# Altium schematic symbol library Schlib1.SchLib: 31 symbols
Pins are listed as number, name and electrical type; pins without a type are passive.

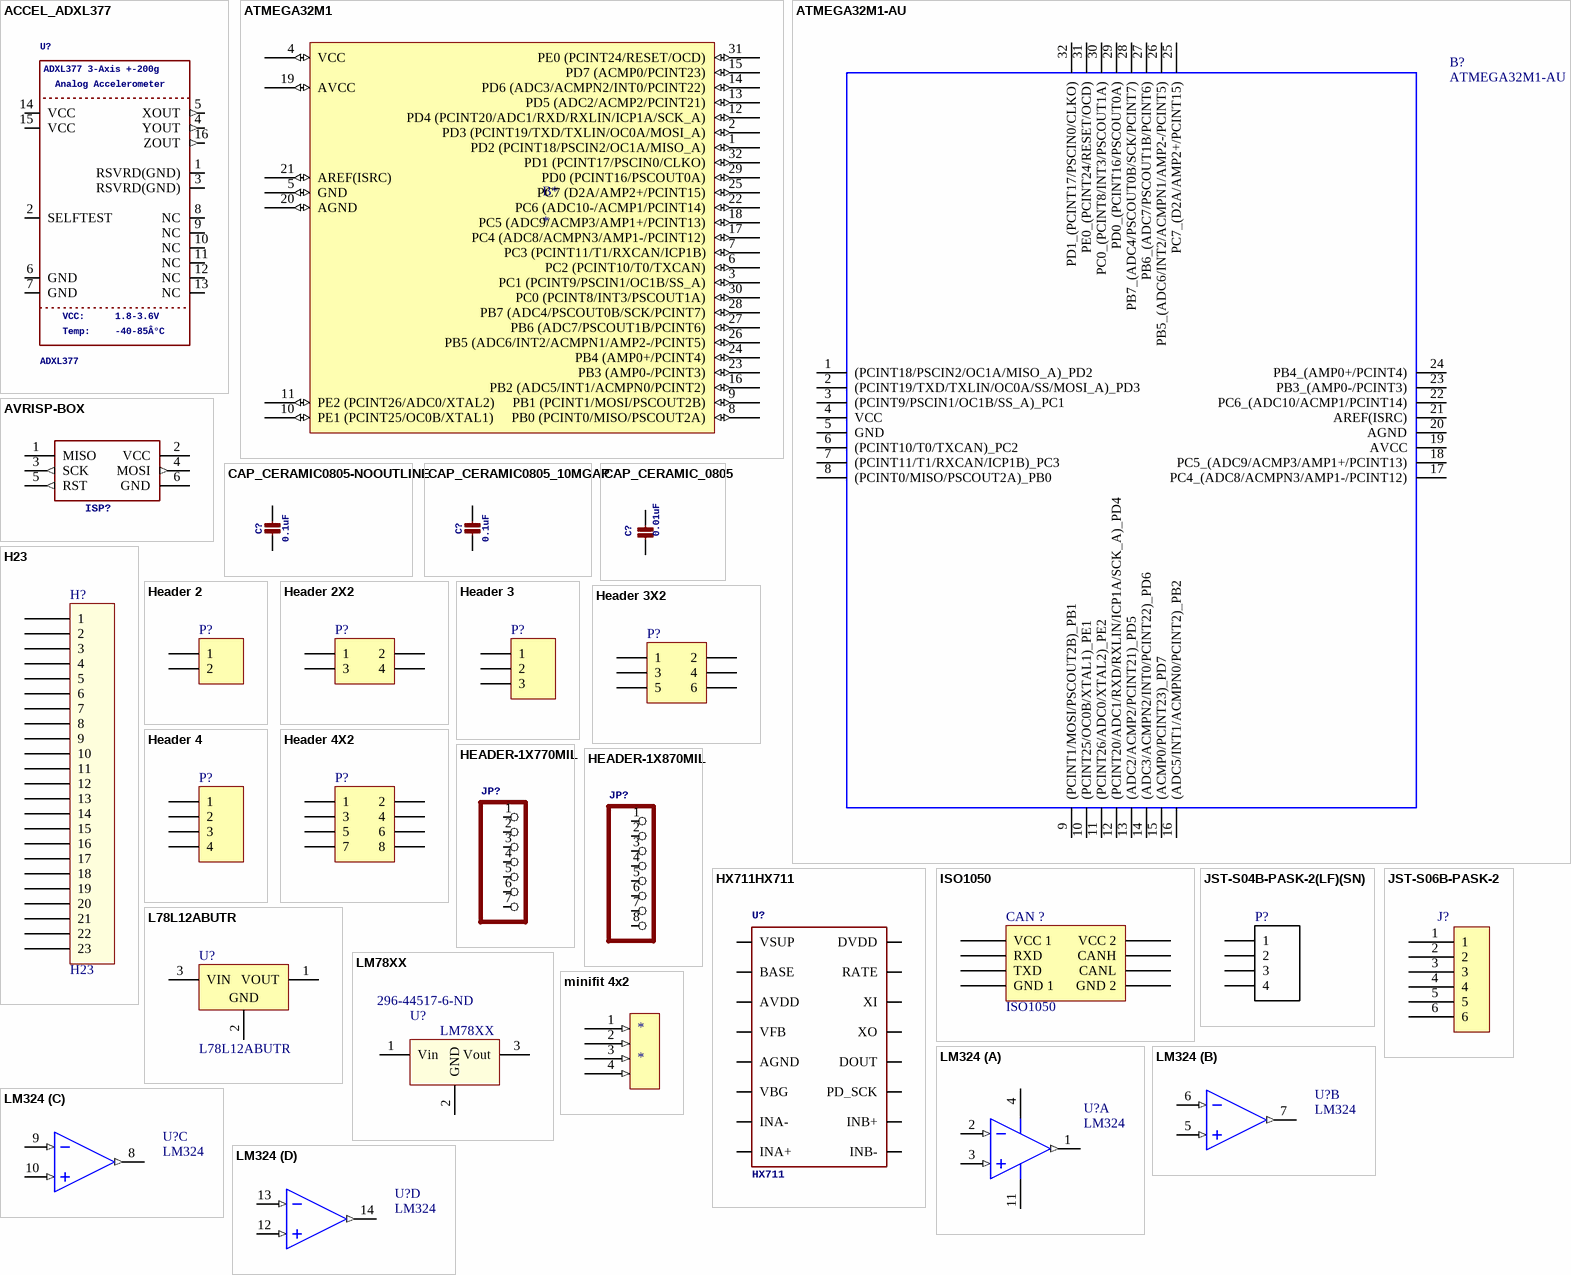
[diagram p0: symbols ACCEL_ADXL377 to minifit 4x2]

## ACCEL_ADXL377
designator U?, comment ADXL377  ADXL3773-Axis+-200g: ADXL377 3-Axis +-200g  AnalogAccelerometer: Analog Accelerometer  VCC: VCC:  Temp: Temp:
ADXL377 +/-200g 3-Axis Analog Accelerometer; GateName_1: G$1; DeviceSetName: ACCEL_ADXL377; SymbolName_1: ADXL377; LibraryName: microbuilder; 1.8-3.6V: 1.8-3.6V; -40-85Â°C: -40-85Â°C
footprint LFCSP16_LQ
pins: 1 RSVRD(GND), 2 SELFTEST, 3 RSVRD(GND), 4 YOUT (out), 5 XOUT (out), 6 GND (power), 7 GND (power), 8 NC, 9 NC, 10 NC, 11 NC, 12 NC, 13 NC, 14 VCC (power), 15 VCC (power), 16 ZOUT (out)

## ATMEGA32M1
designator B*
footprint QFP80P900X900X120-32N
pins: 1 PD2 (PCINT18/PSCIN2/OC1A/MISO_A) (io), 2 PD3 (PCINT19/TXD/TXLIN/OC0A/MOSI_A) (io), 3 PC1 (PCINT9/PSCIN1/OC1B/SS_A) (io), 4 VCC (io), 5 GND (io), 6 PC2 (PCINT10/T0/TXCAN) (io), 7 PC3 (PCINT11/T1/RXCAN/ICP1B) (io), 8 PB0 (PCINT0/MISO/PSCOUT2A) (io), 9 PB1 (PCINT1/MOSI/PSCOUT2B) (io), 10 PE1 (PCINT25/OC0B/XTAL1) (io), 11 PE2 (PCINT26/ADC0/XTAL2) (io), 12 PD4 (PCINT20/ADC1/RXD/RXLIN/ICP1A/SCK_A) (io), 13 PD5 (ADC2/ACMP2/PCINT21) (io), 14 PD6 (ADC3/ACMPN2/INT0/PCINT22) (io), 15 PD7 (ACMP0/PCINT23) (io), 16 PB2 (ADC5/INT1/ACMPN0/PCINT2) (io), 17 PC4 (ADC8/ACMPN3/AMP1-/PCINT12) (io), 18 PC5 (ADC9/ACMP3/AMP1+/PCINT13) (io), 19 AVCC (io), 20 AGND (io), 21 AREF(ISRC) (io), 22 PC6 (ADC10-/ACMP1/PCINT14) (io), 23 PB3 (AMP0-/PCINT3) (io), 24 PB4 (AMP0+/PCINT4) (io), 25 PC7 (D2A/AMP2+/PCINT15) (io), 26 PB5 (ADC6/INT2/ACMPN1/AMP2-/PCINT5) (io), 27 PB6 (ADC7/PSCOUT1B/PCINT6) (io), 28 PB7 (ADC4/PSCOUT0B/SCK/PCINT7) (io), 29 PD0 (PCINT16/PSCOUT0A) (io), 30 PC0 (PCINT8/INT3/PSCOUT1A) (io), 31 PE0 (PCINT24/RESET/OCD) (io), 32 PD1 (PCINT17/PSCIN0/CLKO) (io)

## ATMEGA32M1-AU
designator B?
MCU 8-bit ATmega AVR RISC 32KB Flash Atmel ATMEGA32M1-AU, 8bit AVR Microcontroller, 16MHz, 32 kB Flash, 32-Pin TQFP; Manufacturer_Name: Microchip; Geometry.Height: 1.2mm; Manufacturer_Part_Number: ATMEGA32M1-AU; RS Part Number: 1310286; RS Price/Stock: http://uk.rs-online.com/web/p/products/1310286; Arrow Part Number: ATMEGA32M1-AU; Arrow Price/Stock: https://www.arrow.com/en/products/atmega32m1-au/microchip-technology; Datasheet Link: http://docs-europe.electrocomponents.com/webdocs/1300/0900766b813005cb.pdf
footprint QFP80P900X900X120-32N
pins: 1 (PCINT18/PSCIN2/OC1A/MISO_A)_PD2, 2 (PCINT19/TXD/TXLIN/OC0A/SS/MOSI_A)_PD3, 3 (PCINT9/PSCIN1/OC1B/SS_A)_PC1, 4 VCC (power), 5 GND, 6 (PCINT10/T0/TXCAN)_PC2, 7 (PCINT11/T1/RXCAN/ICP1B)_PC3, 8 (PCINT0/MISO/PSCOUT2A)_PB0, 9 (PCINT1/MOSI/PSCOUT2B)_PB1, 10 (PCINT25/OC0B/XTAL1)_PE1, 11 (PCINT26/ADC0/XTAL2)_PE2, 12 (PCINT20/ADC1/RXD/RXLIN/ICP1A/SCK_A)_PD4, 13 (ADC2/ACMP2/PCINT21)_PD5, 14 (ADC3/ACMPN2/INT0/PCINT22)_PD6, 15 (ACMP0/PCINT23)_PD7, 16 (ADC5/INT1/ACMPN0/PCINT2)_PB2, 17 PC4_(ADC8/ACMPN3/AMP1-/PCINT12), 18 PC5_(ADC9/ACMP3/AMP1+/PCINT13), 19 AVCC (power), 20 AGND, 21 AREF(ISRC), 22 PC6_(ADC10/ACMP1/PCINT14), 23 PB3_(AMP0-/PCINT3), 24 PB4_(AMP0+/PCINT4), 25 PC7_(D2A/AMP2+/PCINT15), 26 PB5_(ADC6/INT2/ACMPN1/AMP2-/PCINT5), 27 PB6_(ADC7/PSCOUT1B/PCINT6), 28 PB7_(ADC4/PSCOUT0B/SCK/PCINT7), 29 PD0_(PCINT16/PSCOUT0A), 30 PC0_(PCINT8/INT3/PSCOUT1A), 31 PE0_(PCINT24/RESET/OCD), 32 PD1_(PCINT17/PSCIN0/CLKO)

## AVRISP-BOX
designator ISP?  (value not drawn)
AVR ISP HEADERStandard 6 pin header for AVR programming; GateName_1: G$1; SymbolName_1: AVRISP; DeviceName: -BOX; LibraryName: adafruit; DeviceSetName: AVRISP
footprint AVRISP-BOX
pins: 1 MISO, 2 VCC (power), 3 SCK (out), 4 MOSI (out), 5 RST (out), 6 GND (power)

## CAP_CERAMIC0805-NOOUTLINE
designator C?, comment 0.1uF
Ceramic CapacitorsFor new designs, use the packages preceded by an '_' character since they are more reliable:The following footprints should be used on most boards:For extremely tight-pitch boards where space is at a premium, the following 'micro-pitch' footprints can be used (smaller pads, no silkscreen outline, etc.):; GateName_1: G$1; DeviceName: 0805-NOOUTLINE; DeviceSetName: CAP_CERAMIC; SymbolName_1: CAPACITOR; LibraryName: microbuilder
footprint 0805-NO
pins: 1, 2

## CAP_CERAMIC0805_10MGAP
designator C?, comment 0.1uF
Ceramic CapacitorsFor new designs, use the packages preceded by an '_' character since they are more reliable:The following footprints should be used on most boards:For extremely tight-pitch boards where space is at a premium, the following 'micro-pitch' footprints can be used (smaller pads, no silkscreen outline, etc.):; GateName_1: G$1; DeviceName: 0805_10MGAP; DeviceSetName: CAP_CERAMIC; SymbolName_1: CAPACITOR; LibraryName: microbuilder
footprint 0805_10MGAP
pins: 1, 2

## CAP_CERAMIC_0805
designator C?, comment 0.01uF
Ceramic CapacitorsFor new designs, use the packages preceded by an '_' character since they are more reliable:The following footprints should be used on most boards:For extremely tight-pitch boards where space is at a premium, the following 'micro-pitch' footprints can be used (smaller pads, no silkscreen outline, etc.):Commonly Stocked Parts0402 - 0402 Surface Mount Capacitors 0603 - 0603 Surface Mount Capacitors 0603 - RF Specific 0805 - 0805 Surface Mount Capacitors 1206 - 1206 Surface Mount Capacitors; GateName_1: G$1; DeviceName: _0805; DeviceSetName: CAP_CERAMIC; SymbolName_1: CAPACITOR; LibraryName: microbuilder
footprint _0805
pins: 1 P$1, 2 P$2

## H23
designator H?
footprint Ampseal PCB 23
pins: 1, 2, 3, 4, 5, 6, 7, 8, 9, 10, 11, 12, 13, 14, 15, 16, 17, 18, 19, 20, 21, 22, 23

## Header 2
designator P?
Header, 2-Pin; LatestRevisionDate: 17-Jul-2002; LatestRevisionNote: Re-released for DXP Platform.; Publisher: Altium Limited
footprint HDR1X2 (Connector; Header; 2 Position)
signal-integrity model Connector
pins: 1, 2

## Header 2X2
designator P?
Header, 2-Pin, Dual row; LatestRevisionDate: 17-Jul-2002; LatestRevisionNote: Re-released for DXP Platform.; Publisher: Altium Limited
footprint Molex MiniFit-Jr 2x2H
pins: 1, 2, 3, 4

## Header 3
designator P?
Header, 3-Pin; LatestRevisionDate: 17-Jul-2002; LatestRevisionNote: Re-released for DXP Platform.; Publisher: Altium Limited
footprint HDR1X3 (Connector; Header; 3 Position)
pins: 1, 2, 3

## Header 3X2
designator P?
Header, 3-Pin, Dual row; LatestRevisionDate: 17-Jul-2002; LatestRevisionNote: Re-released for DXP Platform.; Publisher: Altium Limited
footprint HDR2X3 (Connector; Header; 3x2 Position)
footprint Microfit 3x2H (Molex Microfit 3mm 3x2 Horizontal PCB Mount)
pins: 1, 2, 3, 4, 5, 6

## Header 4
designator P?
Header, 4-Pin; LatestRevisionDate: 17-Jul-2002; LatestRevisionNote: Re-released for DXP Platform.; Publisher: Altium Limited
footprint Molex MiniFit-Jr 2x2H
pins: 1, 2, 3, 4

## Header 4X2
designator P?
Header, 4-Pin, Dual row; LatestRevisionDate: 17-Jul-2002; LatestRevisionNote: Re-released for DXP Platform.; Publisher: Altium Limited
footprint HDR2X4 (Connector; Header; 4x2 Position)
pins: 1, 2, 3, 4, 5, 6, 7, 8

## HEADER-1X770MIL
designator JP?  (value not drawn)
PIN HEADER; GateName_1: A; SymbolName_1: PINHD7; DeviceName: 70MIL; LibraryName: microbuilder; DeviceSetName: HEADER-1X7
footprint 1X07_ROUND_70
pins: 1, 2, 3, 4, 5, 6, 7

## HEADER-1X870MIL
designator JP?  (value not drawn)
PIN HEADER; GateName_1: A; SymbolName_1: PINHD8; DeviceName: 70MIL; LibraryName: microbuilder; DeviceSetName: HEADER-1X8
footprint 1X08_ROUND_70
pins: 1, 2, 3, 4, 5, 6, 7, 8

## HX711HX711
designator U?, comment HX711
GateName_1: U1; PROD_ID: IC-12445; SymbolName_1: HX711; DeviceName: HX711; LibraryName: Testing; DeviceSetName: HX711
footprint SO16
pins: 1 VSUP, 2 BASE, 3 AVDD, 4 VFB, 5 AGND, 6 VBG, 7 INA-, 8 INA+, 9 INB-, 10 INB+, 11 PD_SCK, 12 DOUT, 13 XO, 14 XI, 15 RATE, 16 DVDD

## ISO1050
designator CAN ?
ISO1050 Isolated Can Transceiver; Supplier 1: Farnell; Supplier Part Number 1: 1755712
footprint ISO1050 (ISO1050 Isolated Can Transceiver)
pins: 1 VCC 1, 2 RXD, 3 TXD, 4 GND 1, 5 GND 2, 6 CANL, 7 CANH, 8 VCC 2

## JST-S04B-PASK-2(LF)(SN)
designator P?, comment S04B-PASK-2(LF)(SN)  (value not drawn)
PA Series 4 Position 2.0mm Through Hole Wire to Board Single Row Shrouded Header; MP: S04B-PASK-2_LF__SN_; MF: JST; Package: None; SnapEDA_Link: https://www.snapeda.com/parts/S04B-PASK-2%2528LF%2529%2528SN%2529/JST%2520Sales%2520America%2520Inc/view-part/?ref=snap; Availability: Good; Price: 0.28 USD; Value: *
footprint JST_S04B-PASK-2(LF)(SN)
pins: 1, 2, 3, 4

## JST-S06B-PASK-2
designator J?, comment S06B-PASK-2  (value not drawn)
JST (JAPAN SOLDERLESS TERMINALS) - S06B-PASK-2 - HEADER, PA, 6WAY, SIDE, 2MM; Manufacturer_Name: JST (JAPAN SOLDERLESS TERMINALS); Manufacturer_Part_Number: S06B-PASK-2; RS Part Number: *; RS Price/Stock: *; Arrow Part Number: S06B-PASK-2; Arrow Price/Stock: *; Datasheet Link: https://www.google.at/url?sa=t&rct=j&q=&esrc=s&source=web&cd=4&cad=rja&uact=8&ved=0ahUKEwjPh4aswZ_QAhUCbRQKHeV_BDkQFggvMAM&url=http%3A%2F%2Fwww.jst-mfg.com%2Fproduct%2Fpdf%2Feng%2FePA-F.pdf&usg=AFQjCNHIjr6tw3q-UCZFm2uwsNkZVsuEmQ&sig2=Xvk6c_Ei4q2HSUHpQHCoT
footprint JST_S06B-PASK-2
pins: 1, 2, 3, 4, 5, 6

## L78L12ABUTR
designator U?
Positive Voltage Regulator, 12V, 4-Pin SOT-89, Tape and Reel; ComponentLink1Description: Manufacturer URL; ComponentLink2Description: Datasheet; DatasheetVersion: 1/02/2011; ComponentLink1URL: http://www.st.com; PackageVersion: 2011; PackageDescription: 3-Pin SOT-89 Package 1.5 mm Pitch, 4.1 mm Lead Span; ComponentLink2URL: http://www.st.com/internet/com/TECHNICAL_RESOURCES/TECHNICAL_LITERATURE/DATASHEET/CD00000446.pdf; PackageReference: SOT-89; PartNumber: L78L12ABUTR
footprint SOT-89_N
footprint SOT-89_M
footprint SOT-89_L
pins: 1 VOUT (power), 2 GND (power), 3 VIN (power)

## LM78XX
designator U?  Supplier Part Number 1: 296-44517-6-ND
LM340, LM340A and LM7805 Family Wide VIN 1.5-A Fixed Voltage Regulators / The LM340 and LM7805 Family monolithic 3-terminal / positive voltage regulators employ internal currentlimiting, / thermal shutdown and safe-area / compensation, making them essentially indestructible.; Manufacturer: Texas Instruments; Manufacturer Part Number: LM7805MPNOPB; Quiescent Current: 8mA; Dropout Voltage: 2V; Supplier: Element 14; Supplier Code: 2078564; ComponentLink1Description: datasheet; ComponentLink1URL: http://www.ti.com/lit/ds/symlink/lm340.pdf; Supplier 1: Digi-Key; Stock 1: 1295; Pricing 1: 1=1.36, 10=1.215, 100=0.9476, 500=0.7828 (USD); Min Operating Temperature: 0°C; Max Operating Temperature: 125°C; Lead Free: Contains Lead
footprint SOT-223-2 (SOT-223/SC-73; 4 Leads; Body 6.7 x 7.3 mm, inc. leads (LxW max))
pins: 1 Vin, 2 GND, 3 Vout

## LM324
designator U?
Low Power Quad Operational Amplifier
footprint SO14
part A pins: 1 1 OUT (out), 2 1 IN- (in), 3 1 IN+ (in), 4 VCC (power), 11 VEE (power)
part B pins: 5 2 IN+ (in), 6 2 IN- (in), 7 2 OUT (out)
part C pins: 8 3 OUT (out), 9 3 IN- (in), 10 3 IN+ (in)
part D pins: 12 4 IN+ (in), 13 4 IN- (in), 14 4 OUT (out)

## minifit 4x2
designator *
pins: 1 (in), 2 (in), 3 (in), 4 (in)

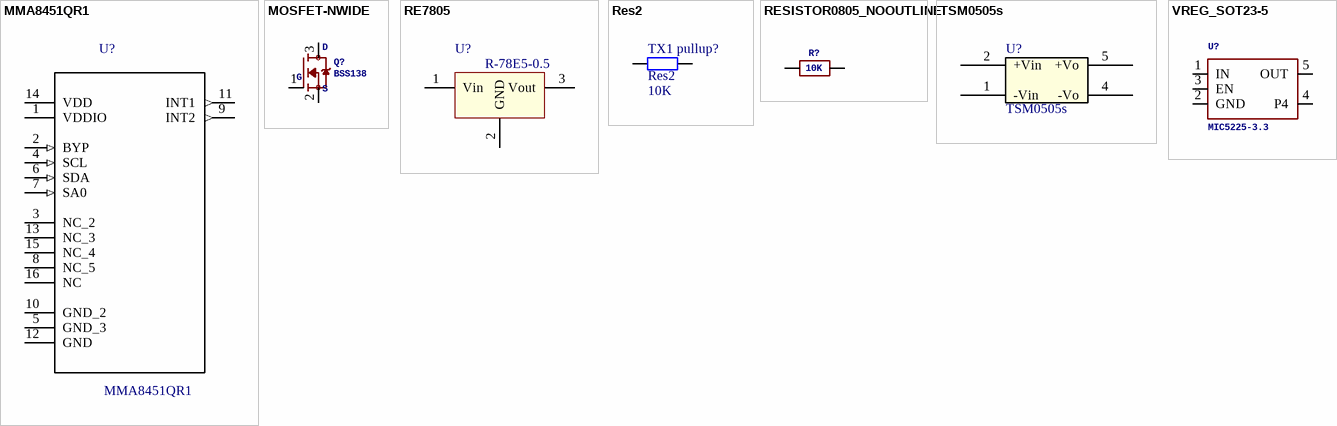
[diagram p1: symbols MMA8451QR1 to VREG_SOT23-5]

## MMA8451QR1
designator U?
Accelerometer, I2C, 1.91-3.6V, XYZ, 2/4/8g, 14bit, QFN 16, Reel; MF: Freescale Semiconductor; SnapEDA_Link: https://www.snapeda.com/parts/MMA8451QR1/Freescale%20Semiconductor/view-part/?ref=snap; Availability: Unavailable; Price: 1.72 USD; Package: QFN-16 Freescale Semiconductor; MP: MMA8451QR1; Value: *
footprint QFN50P300X300X100-16N
pins: 1 VDDIO (power), 2 BYP (in), 3 NC_2, 4 SCL (in), 5 GND_3, 6 SDA (in), 7 SA0 (in), 8 NC_5, 9 INT2 (out), 10 GND_2, 11 INT1 (out), 12 GND, 13 NC_3, 14 VDD (power), 15 NC_4, 16 NC

## MOSFET-NWIDE
designator Q?, comment BSS138
N-Channel MosfetLEGENDVDS: Voltage Drain-SourceID: Drain CurrentRDS(ON): Drain-Source On-State ResistanceVGS(TH): Gate-Source Threshold VoltageCISS: Drain-Source Input Capacitance SOT-23NameVDSIDRDS(ON)VGS(TH)CISSOrder Number2N7002E60V260mA2.5 Ohm2.5V @ 250uA26.7pF @ 25V2N7002ET1GOSTR-NDBSH10330V850mA400 mOhm400mV @ 1mA83pF @ 24VBSH103,235-NDBSS13860V320mA1.6 Ohm1.5V @ 250uA50pF @ 10VMouser: 771-BSS138PW115DMN2075U-720V4.2A38 mOhm1V @ 250 uA594.3pF @ 10VDMN2075U-7DICT-ND* BSS138 good choice for I2C level-shiftingPOWERPAK 1212-8NameVDSIDRDS(ON)VGS(TH)CISSOrder NumberSi7308DN60V6A58 mOhm3V @ 250uA665pF @ 15VSI7308DN-T1-E3CT-ND; GateName_1: G$1; SymbolName_1: MOSFET-N; DeviceName: WIDE; LibraryName: microbuilder; DeviceSetName: MOSFET-N; D: D; S: S; G: G
footprint SOT23-WIDE
pins: 1 G, 2 S, 3 D

## RE7805
designator U?, comment R-78E5-0.5
Recom 5V DC DC 500mA Regulator; Supplier: Element 14; Supplier Code: 2078564
footprint RE-78E05
pins: 1 Vin, 2 GND, 3 Vout

## Res2
designator TX1 pullup?  value 10K
Resistor; Published: 8-Jun-2000; LatestRevisionDate: 17-Jul-2002; LatestRevisionNote: Re-released for DXP Platform.; PackageReference: AXIAL-0.4; Publisher: Altium Limited; PackageDescription: Axial Device, Thru-Hole; 2 Leads; 0.4 in Pin Spacing
footprint AXIAL-0.4 (Axial Device, Thru-Hole; 2 Leads; 0.4 in Pin Spacing)
simulation model RESISTOR (Resistor)
signal-integrity model Res
pins: 1, 2

## RESISTOR0805_NOOUTLINE
designator R?, comment 10K
ResistorsFor new designs, use the packages preceded by an '_' character since they are more reliable:The following footprints should be used on most boards:For extremely tight-pitch boards where space is at a premium, the following 'micro-pitch' footprints can be used (smaller pads, no silkscreen outline, etc.):; GateName_1: G$1; DeviceName: 0805_NOOUTLINE; SymbolName_1: RESISTOR; LibraryName: microbuilder; DeviceSetName: RESISTOR
footprint 0805-NO
pins: 1, 2

## TSM0505s
designator U?
footprint TSM1205S (Traco Power single output DC-DC)
pins: 1 -Vin, 2 +Vin, 4 -Vo, 5 +Vo

## VREG_SOT23-5
designator U?, comment MIC5225-3.3
SOT23-5 Fixed Voltage RegulatorsPartCurrent OutV OutV InV DropoutÎ¸JA (Â°C/W)TJ (Â°C)Digikey Part No.  ADP121  150mA  3.3V  3.4-5.5V  0.09V @ 150mA  --  --  ADP121-AUJZ33R7CT-ND  ADP121  150mA  3.0V  3.1-5.5V  0.09V @ 150mA  --  --  ADP121-AUJZ30R7CT-ND  ADP122     300mA  3.3V  3.4-5.5V  0.085V @ 300mA  --  --  ADP122AUJZ-3.3-R7CT-ND  ADP1712     300mA  3.3V  3.5-5.5V  0.17V @ 300mA  --  --  ADP1712AUJZ-3.3-R7TR-ND  AP7311 (Low Cost)  150mA  3.3V  3.5-6V  0.15V @ 150mA  --  --  AP7311-33WG-7DICT-ND  LD39015M18R  150mA  1.8V  1.9V-5.5V  0.08V @ 100mA  --  --  497-6977-1-ND  LP2985A-33DBVR  150mA  3.3V  3.3-16V  0.28V @ 150mA  206  150  296-18479-1-ND  MCP1824T-3302E/OT  300mA  3.3V  3.5V-6V  0.2V @ 300mA  --  --  MCP1824T-3302E/OTCT-ND  MIC5205-2.5YM5 TR  150mA  2.5V  2.7-16V  0.165V @ 150mA  --  --  576-1257-2-ND  MIC5205-3.0YM5 TR  150mA  3.0V  3.2V-16V  0.165V @ 150mA  --  --  576-1258-2-ND  MIC5205-3.3YM5 TR  150mA  3.3V  3.5V-16V  0.165V @ 150mA  --  --  576-1259-2-ND  TPS780330220  150mA  3.3V+2.2V  3.6-5.5V  250mV Max  --  --  296-23332-1-ND  TDA3663/N1,135  100mA  3.3V  3.5-45V  0.18V @ 50mA  --  --  568-5343-1-ND                                Max operating temp can be calculated using Î¸JA, TJ (max junction temperature), and power in watts.  Set the "Maximum Ambient Temperature" until it reaches TJ ("Max Junction Temperature"), which is the absolute limit for safe use of the regulator: Heat Sink Temperature CalculatorFor example, With 12V source into a 3.3V LP2985 and a 30mA load, we are dissipating (12V-3.3V) * 0.03A = 0.261W.  With a Î¸JA of 206 Â°C/W, a TJ of 150Â°C, and 261mW we can safely use the chip without a heat sink up to 75Â°C (=147.1Â°C Junction Temperature).; GateName_1: G$1; SymbolName_1: VREG_SOT23-5; LibraryName: microbuilder; DeviceSetName: VREG_SOT23-5
footprint SOT95P280X145-5N
pins: 1 IN (power), 2 GND (power), 3 EN, 4 P4, 5 OUT (power)